# Altium schematic symbol library Capital.SchLib: 42 symbols
Pins are listed as number, name and electrical type; pins without a type are passive.

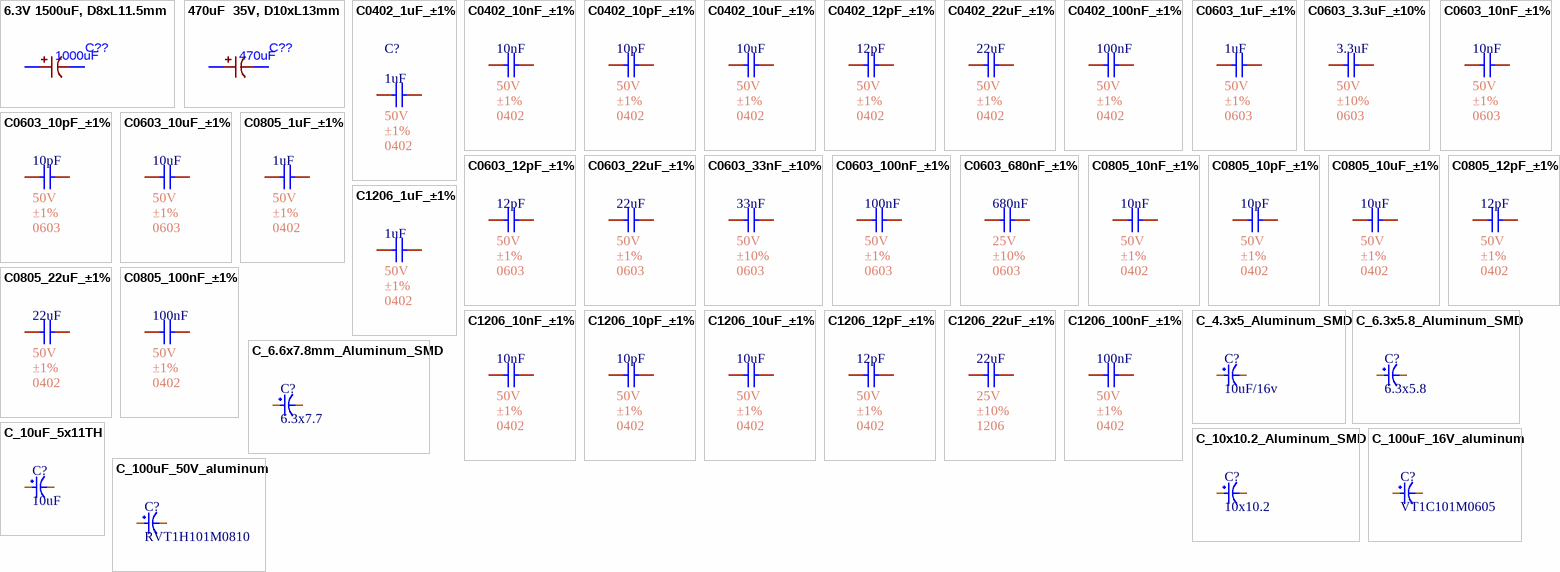
[diagram p0: symbols 6.3V 1500uF, D8xL11.5mm to C_100uF_50V_aluminum]

## 6.3V 1500uF, D8xL11.5mm
designator C??, comment 1000uF
6.3V 1500uF 4.7A@100kHz 10mΩ@100kHz ±20% Through Hole,D8xL11.5mm Aluminum - Polymer Capacitors RoHS; Manufacturer: JIERR; Mfr. Part #: PB6.3V1500M8X11; LCSC Part #: C51934156; Package: Through Hole,D8xL11.5mm; Link: https://www.lcsc.com/product-detail/C51934156.html
footprint 6.3V 1500uF, D8xL11.5mm (6.3V 1500uF 4.7A@100kHz 10mO@100kHz ±20% Through Hole,D8xL11.5mm Aluminum - Polymer Capacitors RoHS)
pins: 1, 2

## 470uF  35V, D10xL13mm
designator C??, comment 470uF
470uF ±20% 35V Through Hole,D10xL13mm; Manufacturer: AISHI; Mfr. Part #: SPZ1VM471G13O00RAXXX; Key Attributes: CAP ALUM POLY 470uF ±20% 35V TH; LCSC Part #: C2691847; Package: Through Hole,D10xL13mm; Link: https://www.lcsc.com/product-detail/C2691847.html
footprint 470uF 35V, D10xL13mm (470uF ±20% 35V Through Hole,D10xL13mm)
pins: 1, 2

## C0402_1uF_±1%
designator C?, comment 1uF  Tolerance: ±1%  Package: 0402  Voltage Rating: 50V
50V 10pF NP0 ±1% 0402 Multilayer Ceramic Capacitors MLCC - SMD/SMT ROHS; Manufacturer: YAGEO; Mfr. Part #: CC0402FRNPO9BN100; LCSC Part #: C513681; Link: https://www.lcsc.com/product-detail/C513681.html?s_z=n_capital%2520yageo%252010pF%25200402; Capacitance: 1uF
footprint C0402
pins: 1, 2

## C0402_10nF_±1%
designator C?, comment 10nF  Tolerance: ±1%  Package: 0402  Voltage Rating: 50V
50V 10pF NP0 ±1% 0402 Multilayer Ceramic Capacitors MLCC - SMD/SMT ROHS; Manufacturer: YAGEO; Mfr. Part #: CC0402FRNPO9BN100; LCSC Part #: C513681; Link: https://www.lcsc.com/product-detail/C513681.html?s_z=n_capital%2520yageo%252010pF%25200402; Capacitance: 10nF
footprint C0402
pins: 1, 2

## C0402_10pF_±1%
designator C?, comment 10pF  Tolerance: ±1%  Package: 0402  Voltage Rating: 50V
50V 10pF NP0 ±1% 0402 Multilayer Ceramic Capacitors MLCC - SMD/SMT ROHS; Manufacturer: YAGEO; Mfr. Part #: CC0402FRNPO9BN100; LCSC Part #: C513681; Link: https://www.lcsc.com/product-detail/C513681.html?s_z=n_capital%2520yageo%252010pF%25200402; Capacitance: 10pF
footprint C0402
pins: 1, 2

## C0402_10uF_±1%
designator C?, comment 10uF  Tolerance: ±1%  Package: 0402  Voltage Rating: 50V
50V 10pF NP0 ±1% 0402 Multilayer Ceramic Capacitors MLCC - SMD/SMT ROHS; Manufacturer: YAGEO; Mfr. Part #: CC0402FRNPO9BN100; LCSC Part #: C513681; Link: https://www.lcsc.com/product-detail/C513681.html?s_z=n_capital%2520yageo%252010pF%25200402; Capacitance: 10uF
footprint C0402
pins: 1, 2

## C0402_12pF_±1%
designator C?, comment 12pF  Tolerance: ±1%  Package: 0402  Voltage Rating: 50V
50V 10pF NP0 ±1% 0402 Multilayer Ceramic Capacitors MLCC - SMD/SMT ROHS; Manufacturer: YAGEO; Mfr. Part #: CC0402FRNPO9BN100; LCSC Part #: C513681; Link: https://www.lcsc.com/product-detail/C513681.html?s_z=n_capital%2520yageo%252010pF%25200402; Capacitance: 12pF
footprint C0402
pins: 1, 2

## C0402_22uF_±1%
designator C?, comment 22uF  Tolerance: ±1%  Package: 0402  Voltage Rating: 50V
50V 10pF NP0 ±1% 0402 Multilayer Ceramic Capacitors MLCC - SMD/SMT ROHS; Manufacturer: YAGEO; Mfr. Part #: CC0402FRNPO9BN100; LCSC Part #: C513681; Link: https://www.lcsc.com/product-detail/C513681.html?s_z=n_capital%2520yageo%252010pF%25200402; Capacitance: 22uF
footprint C0402
pins: 1, 2

## C0402_100nF_±1%
designator C?, comment 100nF  Tolerance: ±1%  Package: 0402  Voltage Rating: 50V
50V 10pF NP0 ±1% 0402 Multilayer Ceramic Capacitors MLCC - SMD/SMT ROHS; Manufacturer: YAGEO; Mfr. Part #: CC0402FRNPO9BN100; LCSC Part #: C513681; Link: https://www.lcsc.com/product-detail/C513681.html?s_z=n_capital%2520yageo%252010pF%25200402; Capacitance: 100nF
footprint C0402
pins: 1, 2

## C0603_1uF_±1%
designator C?, comment 1uF  Tolerance: ±1%  Package: 0603  Voltage Rating: 50V
50V 10pF NP0 ±1% 0402 Multilayer Ceramic Capacitors MLCC - SMD/SMT ROHS; Manufacturer: YAGEO; Mfr. Part #: CC0402FRNPO9BN100; LCSC Part #: C513681; Link: https://www.lcsc.com/product-detail/C513681.html?s_z=n_capital%2520yageo%252010pF%25200402; Capacitance: 1uF
footprint Model Name (Model Description)
footprint C0603
pins: 1, 2

## C0603_3.3uF_±10%
designator C?, comment 3.3uF  Tolerance: ±10%  Package: 0603  Voltage Rating: 50V
50V 10pF NP0 ±1% 0402 Multilayer Ceramic Capacitors MLCC - SMD/SMT ROHS; Manufacturer: muRata; Mfr. Part #: GCJ188C70J335KE02D; Temperature Coefficient: X7S; LCSC Part #: C710616; Link: https://www.lcsc.com/product-detail/C710616.html?s_z=n_Capita%25200603%25203.3uF%2520yageo; Capacitance: 3.3uF
footprint C0603
pins: 1, 2

## C0603_10nF_±1%
designator C?, comment 10nF  Tolerance: ±1%  Package: 0603  Voltage Rating: 50V
50V 10pF NP0 ±1% 0402 Multilayer Ceramic Capacitors MLCC - SMD/SMT ROHS; Manufacturer: YAGEO; Mfr. Part #: CC0402FRNPO9BN100; LCSC Part #: C513681; Link: https://www.lcsc.com/product-detail/C513681.html?s_z=n_capital%2520yageo%252010pF%25200402; Capacitance: 10nF
footprint C0603
pins: 1, 2

## C0603_10pF_±1%
designator C?, comment 10pF  Tolerance: ±1%  Package: 0603  Voltage Rating: 50V
50V 10pF NP0 ±1% 0402 Multilayer Ceramic Capacitors MLCC - SMD/SMT ROHS; Manufacturer: YAGEO; Mfr. Part #: CC0402FRNPO9BN100; LCSC Part #: C513681; Link: https://www.lcsc.com/product-detail/C513681.html?s_z=n_capital%2520yageo%252010pF%25200402; Capacitance: 10pF
footprint C0603
pins: 1, 2

## C0603_10uF_±1%
designator C?, comment 10uF  Tolerance: ±1%  Package: 0603  Voltage Rating: 50V
50V 10pF NP0 ±1% 0402 Multilayer Ceramic Capacitors MLCC - SMD/SMT ROHS; Manufacturer: YAGEO; Mfr. Part #: CC0402FRNPO9BN100; LCSC Part #: C513681; Link: https://www.lcsc.com/product-detail/C513681.html?s_z=n_capital%2520yageo%252010pF%25200402; Capacitance: 10uF
footprint C0603
pins: 1, 2

## C0603_12pF_±1%
designator C?, comment 12pF  Tolerance: ±1%  Package: 0603  Voltage Rating: 50V
50V 10pF NP0 ±1% 0402 Multilayer Ceramic Capacitors MLCC - SMD/SMT ROHS; Manufacturer: YAGEO; Mfr. Part #: CC0402FRNPO9BN100; LCSC Part #: C513681; Link: https://www.lcsc.com/product-detail/C513681.html?s_z=n_capital%2520yageo%252010pF%25200402; Capacitance: 12pF
footprint C0603
pins: 1, 2

## C0603_22uF_±1%
designator C?, comment 22uF  Tolerance: ±1%  Package: 0603  Voltage Rating: 50V
50V 10pF NP0 ±1% 0402 Multilayer Ceramic Capacitors MLCC - SMD/SMT ROHS; Manufacturer: YAGEO; Mfr. Part #: CC0402FRNPO9BN100; LCSC Part #: C513681; Link: https://www.lcsc.com/product-detail/C513681.html?s_z=n_capital%2520yageo%252010pF%25200402; Capacitance: 22uF
footprint C0603
pins: 1, 2

## C0603_33nF_±10%
designator C?, comment 33nF  Tolerance: ±10%  Package: 0603  Voltage Rating: 50V
100mW Thick Film Resistor 75V ±100ppm/℃ ±1% 470Ω 0603 Chip Resistor - Surface Mount ROHS; Manufacturer: YAGEO; Mfr. Part #: CC0603KRX7R9BB333; Temperature Coefficient: X7R; LCSC Part #: C106856; Link: https://www.lcsc.com/product-detail/C106856.html?s_z=n_capital%2520yageo%25200603%252033nF; Capacitance: 33nF
footprint C0603
pins: 1, 2

## C0603_100nF_±1%
designator C?, comment 100nF  Tolerance: ±1%  Package: 0603  Voltage Rating: 50V
50V 10pF NP0 ±1% 0402 Multilayer Ceramic Capacitors MLCC - SMD/SMT ROHS; Manufacturer: YAGEO; Mfr. Part #: CC0402FRNPO9BN100; LCSC Part #: C513681; Link: https://www.lcsc.com/product-detail/C513681.html?s_z=n_capital%2520yageo%252010pF%25200402; Capacitance: 100nF
footprint C0603
pins: 1, 2

## C0603_680nF_±1%
designator C?, comment 680nF  Tolerance: ±10%  Package: 0603  Voltage Rating: 25V
25V 680nF X5R ±10% 0603 Multilayer Ceramic Capacitors MLCC - SMD/SMT ROHS; Manufacturer: YAGEO; Mfr. Part #: CC0603KRX5R8BB684; LCSC Part #: C327005; Link: https://www.lcsc.com/product-detail/C327005.html?s_z=n_capital%2520yageo%2520680%2520nF%25200603; Capacitance: 680nF
footprint C0603
pins: 1, 2

## C0805_1uF_±1%
designator C?, comment 1uF  Tolerance: ±1%  Package: 0402  Voltage Rating: 50V
50V 10pF NP0 ±1% 0402 Multilayer Ceramic Capacitors MLCC - SMD/SMT ROHS; Manufacturer: YAGEO; Mfr. Part #: CC0402FRNPO9BN100; LCSC Part #: C513681; Link: https://www.lcsc.com/product-detail/C513681.html?s_z=n_capital%2520yageo%252010pF%25200402; Capacitance: 1uF
footprint C0805
pins: 1, 2

## C0805_10nF_±1%
designator C?, comment 10nF  Tolerance: ±1%  Package: 0402  Voltage Rating: 50V
50V 10pF NP0 ±1% 0402 Multilayer Ceramic Capacitors MLCC - SMD/SMT ROHS; Manufacturer: YAGEO; Mfr. Part #: CC0402FRNPO9BN100; LCSC Part #: C513681; Link: https://www.lcsc.com/product-detail/C513681.html?s_z=n_capital%2520yageo%252010pF%25200402; Capacitance: 10nF
footprint C0805
pins: 1, 2

## C0805_10pF_±1%
designator C?, comment 10pF  Tolerance: ±1%  Package: 0402  Voltage Rating: 50V
50V 10pF NP0 ±1% 0402 Multilayer Ceramic Capacitors MLCC - SMD/SMT ROHS; Manufacturer: YAGEO; Mfr. Part #: CC0402FRNPO9BN100; LCSC Part #: C513681; Link: https://www.lcsc.com/product-detail/C513681.html?s_z=n_capital%2520yageo%252010pF%25200402; Capacitance: 10pF
footprint C0805
pins: 1, 2

## C0805_10uF_±1%
designator C?, comment 10uF  Tolerance: ±1%  Package: 0402  Voltage Rating: 50V
50V 10pF NP0 ±1% 0402 Multilayer Ceramic Capacitors MLCC - SMD/SMT ROHS; Manufacturer: YAGEO; Mfr. Part #: CC0402FRNPO9BN100; LCSC Part #: C513681; Link: https://www.lcsc.com/product-detail/C513681.html?s_z=n_capital%2520yageo%252010pF%25200402; Capacitance: 10uF
footprint C0805
pins: 1, 2

## C0805_12pF_±1%
designator C?, comment 12pF  Tolerance: ±1%  Package: 0402  Voltage Rating: 50V
50V 10pF NP0 ±1% 0402 Multilayer Ceramic Capacitors MLCC - SMD/SMT ROHS; Manufacturer: YAGEO; Mfr. Part #: CC0402FRNPO9BN100; LCSC Part #: C513681; Link: https://www.lcsc.com/product-detail/C513681.html?s_z=n_capital%2520yageo%252010pF%25200402; Capacitance: 12pF
footprint C0805
pins: 1, 2

## C0805_22uF_±1%
designator C?, comment 22uF  Tolerance: ±1%  Package: 0402  Voltage Rating: 50V
50V 10pF NP0 ±1% 0402 Multilayer Ceramic Capacitors MLCC - SMD/SMT ROHS; Manufacturer: YAGEO; Mfr. Part #: CC0402FRNPO9BN100; LCSC Part #: C513681; Link: https://www.lcsc.com/product-detail/C513681.html?s_z=n_capital%2520yageo%252010pF%25200402; Capacitance: 22uF
footprint C0805
pins: 1, 2

## C0805_100nF_±1%
designator C?, comment 100nF  Tolerance: ±1%  Package: 0402  Voltage Rating: 50V
50V 10pF NP0 ±1% 0402 Multilayer Ceramic Capacitors MLCC - SMD/SMT ROHS; Manufacturer: YAGEO; Mfr. Part #: CC0402FRNPO9BN100; LCSC Part #: C513681; Link: https://www.lcsc.com/product-detail/C513681.html?s_z=n_capital%2520yageo%252010pF%25200402; Capacitance: 100nF
footprint C0805
pins: 1, 2

## C1206_1uF_±1%
designator C?, comment 1uF  Tolerance: ±1%  Package: 0402  Voltage Rating: 50V
50V 10pF NP0 ±1% 0402 Multilayer Ceramic Capacitors MLCC - SMD/SMT ROHS; Manufacturer: YAGEO; Mfr. Part #: CC0402FRNPO9BN100; LCSC Part #: C513681; Link: https://www.lcsc.com/product-detail/C513681.html?s_z=n_capital%2520yageo%252010pF%25200402; Capacitance: 1uF
footprint C1206
pins: 1, 2

## C1206_10nF_±1%
designator C?, comment 10nF  Tolerance: ±1%  Package: 0402  Voltage Rating: 50V
50V 10pF NP0 ±1% 0402 Multilayer Ceramic Capacitors MLCC - SMD/SMT ROHS; Manufacturer: YAGEO; Mfr. Part #: CC0402FRNPO9BN100; LCSC Part #: C513681; Link: https://www.lcsc.com/product-detail/C513681.html?s_z=n_capital%2520yageo%252010pF%25200402; Capacitance: 10nF
footprint C1206
pins: 1, 2

## C1206_10pF_±1%
designator C?, comment 10pF  Tolerance: ±1%  Package: 0402  Voltage Rating: 50V
50V 10pF NP0 ±1% 0402 Multilayer Ceramic Capacitors MLCC - SMD/SMT ROHS; Manufacturer: YAGEO; Mfr. Part #: CC0402FRNPO9BN100; LCSC Part #: C513681; Link: https://www.lcsc.com/product-detail/C513681.html?s_z=n_capital%2520yageo%252010pF%25200402; Capacitance: 10pF
footprint C1206
pins: 1, 2

## C1206_10uF_±1%
designator C?, comment 10uF  Tolerance: ±1%  Package: 0402  Voltage Rating: 50V
50V 10pF NP0 ±1% 0402 Multilayer Ceramic Capacitors MLCC - SMD/SMT ROHS; Manufacturer: YAGEO; Mfr. Part #: CC0402FRNPO9BN100; LCSC Part #: C513681; Link: https://www.lcsc.com/product-detail/C513681.html?s_z=n_capital%2520yageo%252010pF%25200402; Capacitance: 10uF
footprint C1206
pins: 1, 2

## C1206_12pF_±1%
designator C?, comment 12pF  Tolerance: ±1%  Package: 0402  Voltage Rating: 50V
50V 10pF NP0 ±1% 0402 Multilayer Ceramic Capacitors MLCC - SMD/SMT ROHS; Manufacturer: YAGEO; Mfr. Part #: CC0402FRNPO9BN100; LCSC Part #: C513681; Link: https://www.lcsc.com/product-detail/C513681.html?s_z=n_capital%2520yageo%252010pF%25200402; Capacitance: 12pF
footprint C1206
pins: 1, 2

## C1206_22uF_±1%
designator C?, comment 22uF  Tolerance: ±10%  Package: 1206  Voltage Rating: 25V
25V 22uF X5R ±10% 1206 Multilayer Ceramic Capacitors MLCC - SMD/SMT ROHS; Manufacturer: YAGEO; Mfr. Part #: CC1206KKX5R8BB226; LCSC Part #: C2178233; Link: https://www.lcsc.com/product-detail/C2178233.html?s_z=n_capital%25201206%252022uf%2520yageo; Capacitance: 22uF
footprint C1206
pins: 1, 2

## C1206_100nF_±1%
designator C?, comment 100nF  Tolerance: ±1%  Package: 0402  Voltage Rating: 50V
50V 10pF NP0 ±1% 0402 Multilayer Ceramic Capacitors MLCC - SMD/SMT ROHS; Manufacturer: YAGEO; Mfr. Part #: CC0402FRNPO9BN100; LCSC Part #: C513681; Link: https://www.lcsc.com/product-detail/C513681.html?s_z=n_capital%2520yageo%252010pF%25200402; Capacitance: 100nF
footprint C1206
pins: 1, 2

## C_4.3x5_Aluminum_SMD
designator C?, comment 10uF/16v
10ÂµF 16V Aluminum Electrolytic Capacitors Radial, Can - SMD 2000 Hrs @ 105Â°C; MP: EEE-HB1C100R; MF: Panasonic Electronic; Price: None; Check_prices: https://www.snapeda.com/parts/EEE-HB1C100R/Panasonic%20Electronic%20Components/view-part/605830/?ref=eda; Value: *; Purchase-URL: https://pricing.snapeda.com/search/part/EEE-HB1C100R/?ref=eda; Package: RADIAL-2 Panasonic; SnapEDA_Link: https://www.snapeda.com/parts/EEE-HB1C100R/Panasonic%20Electronic%20Components/view-part/605830/?ref=snap; Availability: In Stock
footprint C_4.3x5_Aluminum_smd
pins: 1, 2

## C_6.3x5.8_Aluminum_SMD
designator C?, comment 6.3x5.8
16V 10uF ±20% SMD,D6.3xL5.8mm Aluminum - Polymer Capacitors RoHS; Manufacturer: Honor Elec; Mfr. Part #: HV1C106M0605PZ; LCSC Part #: C5246522; Link: https://www.lcsc.com/product-detail/C5246522.html
footprint C_6.3x5.8mm_Aluminum_SMD (16V 10uF ±20% SMD,D6.3xL5.8mm Aluminum - Polymer Capacitors RoHS)
pins: 1, 2

## C_6.6x7.8mm_Aluminum_SMD
designator C?, comment 6.3x7.7
100ÂµF 16V Aluminum Electrolytic Capacitors Radial, Can - SMD 2000 Hrs @ 125Â°C; MF: Panasonic; MP: EEETPC101XAP; SnapEDA_Link: https://www.snapeda.com/parts/EEETPC101XAP/Panasonic/view-part/?ref=snap; Package: RADIAL-2 Panasonic; Value: *; Check_prices: https://www.snapeda.com/parts/EEETPC101XAP/Panasonic/view-part/?ref=eda
footprint C_6.6x7.8mm_Aluminum_SMD
pins: 1, 2

## C_10uF_5x11TH
designator C?, comment 10uF
10uF 50V ±20% Through Hole,D5xL11mm Aluminum Electrolytic Capacitors - Leaded ROHS; Manufacturer: Rubycon; Mfr. Part #: 50YXF10MEFC5X11; Key Attributes: CAP ALUM 10uF ±20% 50V TH; Pin Spacing: 2mm; LCSC Part #: C88726; Package: Through Hole,D5xL11mm; Tolerance: ±20%; Voltage Rating: 50V; Capacitance: 10uF; Link: https://www.lcsc.com/product-detail/C88726.html?s_z=n_electrolytic%252010uF
footprint C_TH_5x11mm
pins: 1, 2

## C_10x10.2_Aluminum_SMD
designator C?, comment 10x10.2
1000uF 16V ±20% 347mA@120Hz SMD,D10xL10.2mm Aluminum Electrolytic Capacitors RoHS; Manufacturer: ROQANG; Mfr. Part #: RVT1C102M1010; LCSC Part #: C72470; Link: https://www.lcsc.com/product-detail/C72470.html
footprint C_10x10.2mm_Aluminum_SMD (1000uF 16V ±20% 347mA@120Hz SMD,D10xL10.2mm Aluminum Electrolytic Capacitors RoHS)
pins: 1, 2

## C_100uF_16V_aluminum
designator C?, comment VT1C101M0605
100uF 16V ±20% 63mA@120Hz SMD,D6.3xL5.4mm Aluminum Electrolytic Capacitors RoHS; Manufacturer: ROQANG; Key Attributes: CAP ALUM 100uF ±20% 16V SMD; Mfr. Part #: VT1C101M0605; LCSC Part #: C90273; Package: SMD,D6.3xL5.4mm; Link: https://www.lcsc.com/product-detail/C90273.html?s_z=n_capital%2520100uf%2520aluminum
footprint C_100uF_16V_Aluminum (100uF 16V ±20% 63mA@120Hz SMD,D6.3xL5.4mm Aluminum Electrolytic Capacitors RoHS)
pins: 1, 2

## C_100uF_50V_aluminum
designator C?, comment RVT1H101M0810
100uF 50V ±20% 146mA@120Hz SMD,D8xL10.2mm Aluminum Electrolytic Capacitors RoHS; Manufacturer: ROQANG; Key Attributes: CAP ALUM 100uF ±20% 50V SMD; Mfr. Part #: RVT1H101M0810; LCSC Part #: C72480; Package: SMD,D8xL10.2mm; Link: https://www.lcsc.com/product-detail/C72480.html?s_z=n_capital%2520100uf%2520aluminum
footprint C_100uF_50V_Aluminum (100uF 50V ±20% 146mA@120Hz SMD,D8xL10.2mm Aluminum Electrolytic Capacitors RoHS)
pins: 1, 2

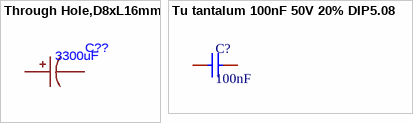
[diagram p1: symbols Through Hole,D8xL16mm to Tu tantalum 100nF 50V 20% DIP5.08]

## Through Hole,D8xL16mm
designator C??, comment 3300uF
3300uF ±20% 6.3V Through Hole,D8xL16mm 2000hrs; Manufacturer: Honor Elec; Mfr. Part #: HS0J338M0816PC; Key Attributes: CAP ALUM POLY 3300uF ±20% 6.3V TH; LCSC Part #: C5438512; Package: Through Hole,D8xL16mm; Link: https://www.lcsc.com/product-detail/C5438512.html
footprint Through Hole,D8xL16mm (3300uF ±20% 6.3V Through Hole,D8xL16mm 2000hrs)
pins: 1, 2

## Tu tantalum 100nF 50V 20% DIP5.08
designator C?, comment 100nF
Cắm; Don_Vi: Con; So_Chan: 2; Ten_Linh_Kien: Tụ tantalum 104-100nF 50V 20% DIP5.08 (sứ vàng)(10PCS); Ma_Hang: MH003955; Chung_Loai: Cắm; Kieu_Chan: *
footprint tu tantalum dip5.08
pins: 1, 2